# EAGLE library part LTC6752DEV (library ldalibrary)
Compartor
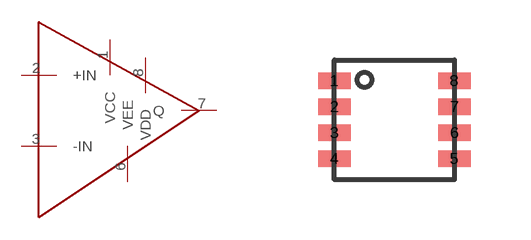
[diagram p1: symbol with the pads of MS8-MSOP; footprint MS8-MSOP]

Designator prefix -

## LTC6752DEV  [MS8-MSOP]
1  VCC
2  +IN
3  -IN
6  VEE
7  Q
8  VDD

## Footprint MS8-MSOP (pad centres in mm)
Comparator Package
smd 0.813 x 0.406: 1 0,2.475; 2 0,1.825; 3 0,1.175; 4 0,0.525; 5 3,0.525; 6 3,1.175; 7 3,1.825; 8 3,2.475